# EAGLE library part 555-TIMER (library FlashPCB_ICs)
https://www.digikey.com/en/resources/conversion-calculators/conversion-calculator-555-timer
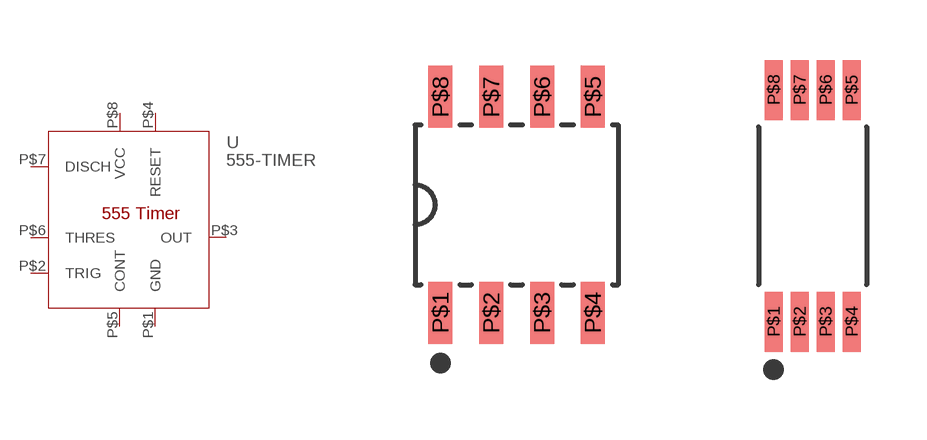
[diagram p0: symbol with the pads of SOIC-8-150MIL-3.9MM; footprints SOIC-8-150MIL-3.9MM, TSSOP-8]

Designator prefix U

## 555-TIMERSOIC-8-150MIL-3.9MM  [SOIC-8-150MIL-3.9MM]
P$1  GND
P$2  TRIG
P$3  OUT
P$4  RESET
P$5  CONT
P$6  THRES
P$7  DISCH
P$8  VCC

## 555-TIMERTSSOP-8  [TSSOP-8]
Pads as for SOIC-8-150MIL-3.9MM

## 555-TIMERDIP8  [DIP-8]
Pads as for SOIC-8-150MIL-3.9MM

## Footprint SOIC-8-150MIL-3.9MM (pad centres in mm)
smd 0.6 x 1.55: P$1 -1.905,-2.7; P$2 -0.635,-2.7; P$3 0.635,-2.7; P$4 1.905,-2.7; P$5 1.905,2.7; P$6 0.635,2.7; P$7 -0.635,2.7; P$8 -1.905,2.7

## Footprint TSSOP-8 (pad centres in mm)
smd 0.45 x 1.5: P$1 -0.975,-2.9; P$2 -0.325,-2.9; P$3 0.325,-2.9; P$4 0.975,-2.9; P$5 0.975,2.9; P$6 0.325,2.9; P$7 -0.325,2.9; P$8 -0.975,2.9

## Footprint DIP-8 (pad centres in mm)
drill 0.8 square: P$1 -4,3.81
drill 0.8: P$2 -4,1.27; P$3 -4,-1.27; P$4 -4,-3.81; P$5 4,-3.81; P$6 4,-1.27; P$7 4,1.27; P$8 4,3.81